# Altium schematic symbol library STM32F334.SchLib: 3 symbols
Pins are listed as number, name and electrical type; pins without a type are passive.

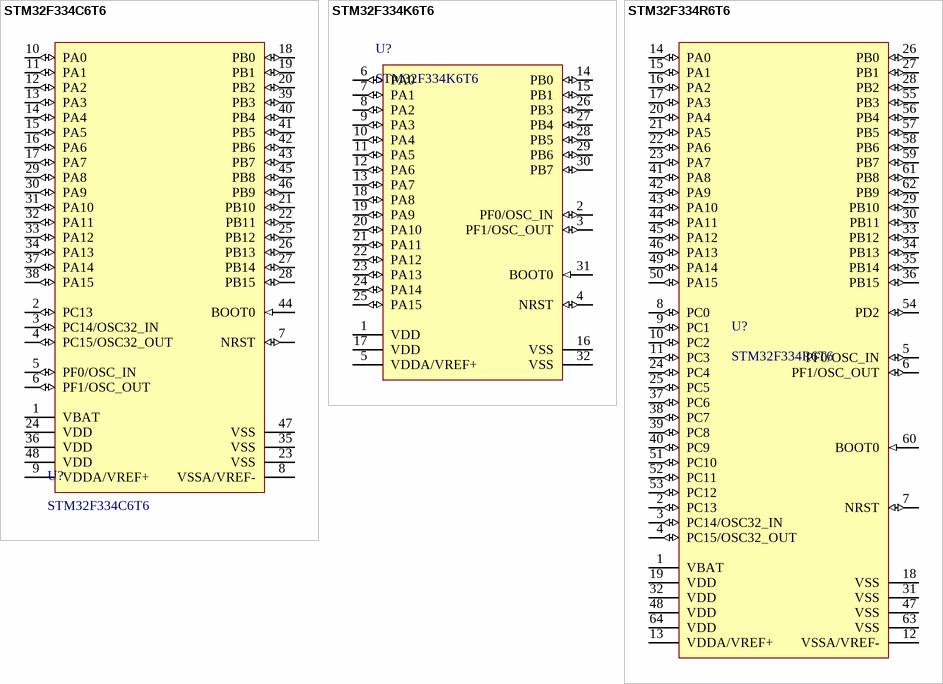
[diagram p0: symbols STM32F334C6T6 to STM32F334R6T6]

## STM32F334C6T6
designator U?
ARM Cortex-M4 32-bit MCU, 48-Pin LQFP, 32 KB Flash, 16 KB Internal RAM, 37 I/Os, -40 to 85 degC, Tray
footprint STM-LQFP48_N
pins: 1 VBAT (power) "Backup power supply", 2 PC13 (io) "PC13/TIM1_CH1N/RTC_TAMP1/RTC_TS/RTC_OUT/WKUP2", 3 PC14/OSC32_IN (io), 4 PC15/OSC32_OUT (io), 5 PF0/OSC_IN (io) "PF0/TIM1_CH3N/OSC_IN", 6 PF1/OSC_OUT (io), 7 NRST (io) "Device reset input/internal reset output (active low)", 8 VSSA/VREF- (power) "Analog ground/Negative reference voltage", 9 VDDA/VREF+ (power) "Analog power supply/Positive reference voltage", 10 PA0 (io) "PA0/TIM2_CH1/TIM2_ETR,TSC_G1_IO1,USART2_CTS,EVENTOUT/ADC1_IN1,RTC_TAMP2/WKUP1", 11 PA1 (io) "PA1/TIM2_CH2,TSC_G1_IO2,USART2_RTS_DE,TIM15_CH1N,EVENTOUT/ADC1_IN2,RTC_REFIN", 12 PA2 (io) "PA2/TIM2_CH3,TSC_G1_IO3,USART2_TX,COMP2_OUT,TIM15_CH1,EVENTOUT/ADC1_IN3,COMP2_INM", 13 PA3 (io) "PA3/TIM2_CH4,TSC_G1_IO4,USART2_RX,TIM15_CH2,EVENTOUT/ADC1_IN4", 14 PA4 (io) "PA4/TIM3_CH2,TSC_G2_IO1,SPI1_NSS,USART2_CK,EVENTOUT/ADC2_IN1,DAC1_OUT1,COMP2_INM4,COMP4_INM4,COMP6_INM4", 15 PA5 (io) "PA5/TIM2_CH1/TIM2_ETR,TSC_G2_IO2,SPI1_SCK,EVENTOUT/ADC2_IN2,DAC1_OUT2,OPAMP2_VINM", 16 PA6 (io) "PA6/TIM16_CH1,TIM3_CH1,TSC_G2_IO3,SPI1_MISO,TIM1_BKIN,OPAMP2_DIG,EVENTOUT/ADC2_IN3,DAC2_OUT1,OPAMP2_VOUT", 17 PA7 (io) "PA7/TIM17_CH1,TIM3_CH2,TSC_G2_IO4,SPI1_MOSI,TIM1_CH1N,EVENTOUT/ADC2_IN4,COMP2_INP,OPAMP2_VINP", 18 PB0 (io) "PB0/TIM3_CH3,TSC_G3_IO2,TIM1_CH2N,EVENTOUT/ADC1_IN11,COMP4_INP,OPAMP2_VINP", 19 PB1 (io) "PB1/TIM3_CH4,TSC_G3_IO3,TIM1_CH3N,COMP4_OUT,HRTIM1_SCOUT,EVENTOUT/ADC1_IN12", 20 PB2 (io) "PB2/TSC_G3_IO4,HRTIM_SCIN,EVENTOUT/ADC2_IN12,COMP4_INM", 21 PB10 (io) "PB10/TIM2_CH3,TSC_SYNC,USART3_TX,HRTIM1_FLT3,EVENTOUT", 22 PB11 (io) "PB11/TIM2_CH4,TSC_G6_IO1,USART3_RX,HRTIM1_FLT4,EVENTOUT/COMP6_INP", 23 VSS (power) "Digital ground", 24 VDD (power) "Digital power supply", 25 PB12 (io) "PB12/TSC_G6_IO2,TIM1_BKIN,USART3_CK,HRTIM1_CHC1,EVENTOUT/ADC2_IN13", 26 PB13 (io) "PB13/TSC_G6_IO3,TIM1_CH1N,USART3_CTS,HRTIM1_CHC2,EVENTOUT/ADC1_IN13", 27 PB14 (io) "PB14/TIM15_CH1,TSC_G6_IO4,TIM1_CH2N,USART3_RTS_DE,HRTIM1_CHD1,EVENTOUT/ADC2_IN14,OPAMP2_VINP", 28 PB15 (io) "PB15/TIM15_CH2,TIM15_CH1N,TIM1_CH3N,HRTIM1_CHD2,EVENTOUT/ADC2_IN15,COMP6_INM,RTC_REFIN", 29 PA8 (io) "PA8/MCO,TIM1_CH1,USART1_CK,HRTIM1_CHA1,EVENTOUT", 30 PA9 (io) "PA9/TSC_G4_IO1,TIM1_CH2,USART1_TX,TIM15_BKIN,TIM2_CH3,HRTIM1_CHA2,EVENTOUT", 31 PA10 (io) "PA10/TIM17_BKIN,TSC_G4_IO2,TIM1_CH3,USART1_RX,COMP6_OUT,TIM2_CH4,HRTIM1_CHB1,EVENTOUT", 32 PA11 (io) "PA11/TIM1_CH1N,USART1_CTS,CAN_RX,TIM1_CH4,TIM1_BKIN2,HRTIM1_CHB2,EVENTOUT", 33 PA12 (io) "PA12/TIM16_CH1,TIM1_CH2N,USART1_RTS_DE,COMP2_OUT,CAN_TX,TIM1_ETR,HRTIM1_FLT1,EVENTOUT", 34 PA13 (io) "PA13/JTMS/SWDAT,TIM16_CH1N,TSC_G4_IO3,IR_OUT,USART3_CTS,EVENTOUT", 35 VSS (power), 36 VDD (power), 37 PA14 (io) "PA14/JTCK/SWCLK,TSC_G4_IO4,I2C1_SDA,TIM1_BKIN,USART2_TX,EVENTOUT", 38 PA15 (io) "PA15/JTDI,TIM2_CH1/TIM2_ETR,TSC_SYNC,I2C1_SCL,SPI1_NSS,USART2_RX,TIM1_BKIN,HRTIM1_FLT2,EVENTOUT", 39 PB3 (io) "PB3/JTDO/TRACESWO,TIM2_CH2,TSC_G5_IO1,SPI1_SCK,USART2_TX,TIM3_ETR,HRTIM1_SCOUT,HRTIM1_EEV9,EVENTOUT", 40 PB4 (io) "PB4/NJTRST,TIM16_CH1,TIM3_CH1,TSC_G5_IO2,SPI1_MISO,USART2_RX,TIM17_BKIN,HRTIM1_EEV7,EVENTOUT", 41 PB5 (io) "PB5/TIM16_BKIN,TIM3_CH2,I2C1_SMBA,SPI1_MOSI,USART2_CK,TIM17_CH1,HRTIM1_EEV6,EVENTOUT", 42 PB6 (io) "PB6/TIM16_CH1N,TSC_G5_IO3,I2C1_SCL,USART1_TX,HRTIM1_SCIN,HRTIM1_EEV4,EVENTOUT", 43 PB7 (io) "PB7/TIM17_CH1N,TSC_G5_IO4,I2C1_SDA,USART1_RX,TIM3_CH4,HRTIM1_EEV3,EVENTOUT", 44 BOOT0 (in), 45 PB8 (io) "PB8/TIM16_CH1,TSC_SYNC,I2C1_SCL,USART3_RX,CAN_RX,TIM1_BKIN,HRTIM1_EEV8,EVENTOUT", 46 PB9 (io) "PB9/TIM17_CH1,I2C1_SDA,IR_OUT,USART3_TX,COMP2_OUT,CAN_TX,HRTIM1_EEV5,EVENTOUT", 47 VSS (power), 48 VDD (power)

## STM32F334K6T6
designator U?
ARM Cortex-M4 32-bit MCU, 32-Pin LQFP, 32 KB Flash, 16 KB Internal RAM, 25 I/Os, -40 to 85 degC, Tray; D/A Converter: 3; Internal RAM Size (kB): 16; I/Os (High Current): 25; Supply Voltage(Vcc) min (V): 2; Operating Frequency(F) (Processor speed) (MHz): 72; FLASH Size (Prog) (kB): 32; ComponentLink1Description: Manufacturer URL; Mounting Technology: Surface Mount; ComponentLink1URL: http://www.st.com/; Package Description: 32-Pin Low Profile Quad Flat Package, 7 x 7 mm Body, 0.8 mm Pitch; ComponentLink2URL: http://www.st.com/st-web-ui/static/active/en/resource/technical/document/datasheet/DM00097745.pdf; Packing: Tray; Package Reference: LQFP32; Core: ARM Cortex-M4; ComponentLink2Description: Datasheet; DatasheetVersion: Rev. 4
footprint STM-LQFP32_N (QFP, 32-Leads, Body 7x7mm, Pitch 0.8mm, IPC Medium Density)
pins: 1 VDD (power), 2 PF0/OSC_IN (io) "PF0/TIM1_CH3N/OSC_IN", 3 PF1/OSC_OUT (io), 4 NRST (io) "Device reset input/internal reset output (active low)", 5 VDDA/VREF+ (power) "Analog power supply/Positive reference voltage", 6 PA0 (io) "PA0/TIM2_CH1/TIM2_ETR,TSC_G1_IO1,USART2_CTS,EVENTOUT/ADC1_IN1,RTC_TAMP2/WKUP1", 7 PA1 (io) "PA1/TIM2_CH2,TSC_G1_IO2,USART2_RTS_DE,TIM15_CH1N,EVENTOUT/ADC1_IN2,RTC_REFIN", 8 PA2 (io) "PA2/TIM2_CH3,TSC_G1_IO3,USART2_TX,COMP2_OUT,TIM15_CH1,EVENTOUT/ADC1_IN3,COMP2_INM", 9 PA3 (io) "PA3/TIM2_CH4,TSC_G1_IO4,USART2_RX,TIM15_CH2,EVENTOUT/ADC1_IN4", 10 PA4 (io) "PA4/TIM3_CH2,TSC_G2_IO1,SPI1_NSS,USART2_CK,EVENTOUT/ADC2_IN1,DAC1_OUT1,COMP2_INM4,COMP4_INM4,COMP6_INM4", 11 PA5 (io) "PA5/TIM2_CH1/TIM2_ETR,TSC_G2_IO2,SPI1_SCK,EVENTOUT/ADC2_IN2,DAC1_OUT2,OPAMP2_VINM", 12 PA6 (io) "PA6/TIM16_CH1,TIM3_CH1,TSC_G2_IO3,SPI1_MISO,TIM1_BKIN,OPAMP2_DIG,EVENTOUT/ADC2_IN3,DAC2_OUT1,OPAMP2_VOUT", 13 PA7 (io) "PA7/TIM17_CH1,TIM3_CH2,TSC_G2_IO4,SPI1_MOSI,TIM1_CH1N,EVENTOUT/ADC2_IN4,COMP2_INP,OPAMP2_VINP", 14 PB0 (io) "PB0/TIM3_CH3,TSC_G3_IO2,TIM1_CH2N,EVENTOUT/ADC1_IN11,COMP4_INP,OPAMP2_VINP", 15 PB1 (io) "PB1/TIM3_CH4,TSC_G3_IO3,TIM1_CH3N,COMP4_OUT,HRTIM1_SCOUT,EVENTOUT/ADC1_IN12", 16 VSS (power) "Digital ground", 17 VDD (power) "Digital power supply", 18 PA8 (io) "PA8/MCO,TIM1_CH1,USART1_CK,HRTIM1_CHA1,EVENTOUT", 19 PA9 (io) "PA9/TSC_G4_IO1,TIM1_CH2,USART1_TX,TIM15_BKIN,TIM2_CH3,HRTIM1_CHA2,EVENTOUT", 20 PA10 (io) "PA10/TIM17_BKIN,TSC_G4_IO2,TIM1_CH3,USART1_RX,COMP6_OUT,TIM2_CH4,HRTIM1_CHB1,EVENTOUT", 21 PA11 (io) "PA11/TIM1_CH1N,USART1_CTS,CAN_RX,TIM1_CH4,TIM1_BKIN2,HRTIM1_CHB2,EVENTOUT", 22 PA12 (io) "PA12/TIM16_CH1,TIM1_CH2N,USART1_RTS_DE,COMP2_OUT,CAN_TX,TIM1_ETR,HRTIM1_FLT1,EVENTOUT", 23 PA13 (io) "PA13/JTMS/SWDAT,TIM16_CH1N,TSC_G4_IO3,IR_OUT,USART3_CTS,EVENTOUT", 24 PA14 (io) "PA14/JTCK/SWCLK,TSC_G4_IO4,I2C1_SDA,TIM1_BKIN,USART2_TX,EVENTOUT", 25 PA15 (io) "PA15/JTDI,TIM2_CH1/TIM2_ETR,TSC_SYNC,I2C1_SCL,SPI1_NSS,USART2_RX,TIM1_BKIN,HRTIM1_FLT2,EVENTOUT", 26 PB3 (io) "PB3/JTDO/TRACESWO,TIM2_CH2,TSC_G5_IO1,SPI1_SCK,USART2_TX,TIM3_ETR,HRTIM1_SCOUT,HRTIM1_EEV9,EVENTOUT", 27 PB4 (io) "PB4/NJTRST,TIM16_CH1,TIM3_CH1,TSC_G5_IO2,SPI1_MISO,USART2_RX,TIM17_BKIN,HRTIM1_EEV7,EVENTOUT", 28 PB5 (io) "PB5/TIM16_BKIN,TIM3_CH2,I2C1_SMBA,SPI1_MOSI,USART2_CK,TIM17_CH1,HRTIM1_EEV6,EVENTOUT", 29 PB6 (io) "PB6/TIM16_CH1N,TSC_G5_IO3,I2C1_SCL,USART1_TX,HRTIM1_SCIN,HRTIM1_EEV4,EVENTOUT", 30 PB7 (io) "PB7/TIM17_CH1N,TSC_G5_IO4,I2C1_SDA,USART1_RX,TIM3_CH4,HRTIM1_EEV3,EVENTOUT", 31 BOOT0 (in), 32 VSS (power)

## STM32F334R6T6
designator U?
ARM Cortex-M4 32-bit MCU, 64-Pin LQFP, 32 KB Flash, 16 KB Internal RAM, 51 I/Os, -40 to 85 degC, Tray
footprint STM-LQFP64_N
pins: 1 VBAT (power) "Backup power supply", 2 PC13 (io) "PC13/TIM1_CH1N/RTC_TAMP1/RTC_TS/RTC_OUT/WKUP2", 3 PC14/OSC32_IN (io), 4 PC15/OSC32_OUT (io), 5 PF0/OSC_IN (io) "PF0/TIM1_CH3N/OSC_IN", 6 PF1/OSC_OUT (io), 7 NRST (io) "Device reset input/internal reset output (active low)", 8 PC0 (io) "PC0/EVENTOUT,TIM1_CH1/ADC12_IN6", 9 PC1 (io) "PC1/EVENTOUT,TIM1_CH2/ADC12_IN7", 10 PC2 (io) "PC2/EVENTOUT,TIM1_CH3/ADC12_IN8", 11 PC3 (io) "PC3/EVENTOUT,TIM1_CH4,TIM1_BKIN2/ADC12_IN9", 12 VSSA/VREF- (power) "Analog ground/Negative reference voltage", 13 VDDA/VREF+ (power) "Analog power supply/Positive reference voltage", 14 PA0 (io) "PA0/TIM2_CH1/TIM2_ETR,TSC_G1_IO1,USART2_CTS,EVENTOUT/ADC1_IN1,RTC_TAMP2/WKUP1", 15 PA1 (io) "PA1/TIM2_CH2,TSC_G1_IO2,USART2_RTS_DE,TIM15_CH1N,EVENTOUT/ADC1_IN2,RTC_REFIN", 16 PA2 (io) "PA2/TIM2_CH3,TSC_G1_IO3,USART2_TX,COMP2_OUT,TIM15_CH1,EVENTOUT/ADC1_IN3,COMP2_INM", 17 PA3 (io) "PA3/TIM2_CH4,TSC_G1_IO4,USART2_RX,TIM15_CH2,EVENTOUT/ADC1_IN4", 18 VSS (power), 19 VDD (power), 20 PA4 (io) "PA4/TIM3_CH2,TSC_G2_IO1,SPI1_NSS,USART2_CK,EVENTOUT/ADC2_IN1,DAC1_OUT1,COMP2_INM4,COMP4_INM4,COMP6_INM4", 21 PA5 (io) "PA5/TIM2_CH1/TIM2_ETR,TSC_G2_IO2,SPI1_SCK,EVENTOUT/ADC2_IN2,DAC1_OUT2,OPAMP2_VINM", 22 PA6 (io) "PA6/TIM16_CH1,TIM3_CH1,TSC_G2_IO3,SPI1_MISO,TIM1_BKIN,OPAMP2_DIG,EVENTOUT/ADC2_IN3,DAC2_OUT1,OPAMP2_VOUT", 23 PA7 (io) "PA7/TIM17_CH1,TIM3_CH2,TSC_G2_IO4,SPI1_MOSI,TIM1_CH1N,EVENTOUT/ADC2_IN4,COMP2_INP,OPAMP2_VINP", 24 PC4 (io) "PC4/EVENTOUT,TIM1_ETR,USART1_TX/ADC2_IN5", 25 PC5 (io) "PC5/EVENTOUT,TIM15_BKIN,TSC_G3_IO1,USART1_RX/ADC2_IN11,OPAMP2_VINM", 26 PB0 (io) "PB0/TIM3_CH3,TSC_G3_IO2,TIM1_CH2N,EVENTOUT/ADC1_IN11,COMP4_INP,OPAMP2_VINP", 27 PB1 (io) "PB1/TIM3_CH4,TSC_G3_IO3,TIM1_CH3N,COMP4_OUT,HRTIM1_SCOUT,EVENTOUT/ADC1_IN12", 28 PB2 (io) "PB2/TSC_G3_IO4,HRTIM_SCIN,EVENTOUT/ADC2_IN12,COMP4_INM", 29 PB10 (io) "PB10/TIM2_CH3,TSC_SYNC,USART3_TX,HRTIM1_FLT3,EVENTOUT", 30 PB11 (io) "PB11/TIM2_CH4,TSC_G6_IO1,USART3_RX,HRTIM1_FLT4,EVENTOUT/COMP6_INP", 31 VSS (power) "Digital ground", 32 VDD (power) "Digital power supply", 33 PB12 (io) "PB12/TSC_G6_IO2,TIM1_BKIN,USART3_CK,HRTIM1_CHC1,EVENTOUT/ADC2_IN13", 34 PB13 (io) "PB13/TSC_G6_IO3,TIM1_CH1N,USART3_CTS,HRTIM1_CHC2,EVENTOUT/ADC1_IN13", 35 PB14 (io) "PB14/TIM15_CH1,TSC_G6_IO4,TIM1_CH2N,USART3_RTS_DE,HRTIM1_CHD1,EVENTOUT/ADC2_IN14,OPAMP2_VINP", 36 PB15 (io) "PB15/TIM15_CH2,TIM15_CH1N,TIM1_CH3N,HRTIM1_CHD2,EVENTOUT/ADC2_IN15,COMP6_INM,RTC_REFIN", 37 PC6 (io) "PC6/EVENTOUT,TIM3_CH1,HRTIM1_EEV10,COMP6_OUT", 38 PC7 (io) "PC7/EVENTOUT,TIM3_CH2,HRTIM1_FLT5", 39 PC8 (io) "PC8/EVENTOUT,TIM3_CH3,HRTIM1_CHE1", 40 PC9 (io) "PC9/EVENTOUT,TIM3_CH4,HRTIM1_CHE2", 41 PA8 (io) "PA8/MCO,TIM1_CH1,USART1_CK,HRTIM1_CHA1,EVENTOUT", 42 PA9 (io) "PA9/TSC_G4_IO1,TIM1_CH2,USART1_TX,TIM15_BKIN,TIM2_CH3,HRTIM1_CHA2,EVENTOUT", 43 PA10 (io) "PA10/TIM17_BKIN,TSC_G4_IO2,TIM1_CH3,USART1_RX,COMP6_OUT,TIM2_CH4,HRTIM1_CHB1,EVENTOUT", 44 PA11 (io) "PA11/TIM1_CH1N,USART1_CTS,CAN_RX,TIM1_CH4,TIM1_BKIN2,HRTIM1_CHB2,EVENTOUT", 45 PA12 (io) "PA12/TIM16_CH1,TIM1_CH2N,USART1_RTS_DE,COMP2_OUT,CAN_TX,TIM1_ETR,HRTIM1_FLT1,EVENTOUT", 46 PA13 (io) "PA13/JTMS/SWDAT,TIM16_CH1N,TSC_G4_IO3,IR_OUT,USART3_CTS,EVENTOUT", 47 VSS (power), 48 VDD (power), 49 PA14 (io) "PA14/JTCK/SWCLK,TSC_G4_IO4,I2C1_SDA,TIM1_BKIN,USART2_TX,EVENTOUT", 50 PA15 (io) "PA15/JTDI,TIM2_CH1/TIM2_ETR,TSC_SYNC,I2C1_SCL,SPI1_NSS,USART2_RX,TIM1_BKIN,HRTIM1_FLT2,EVENTOUT", 51 PC10 (io) "PC10/EVENTOUT,USART3_TX", 52 PC11 (io) "PC11/EVENTOUT,HRTIM1_EEV2,USART3_RX", 53 PC12 (io) "PC12/EVENTOUT,HRTIM1_EEV1,USART3_CK", 54 PD2 (io) "PD2/EVENTOUT,TIM3_ETR", 55 PB3 (io) "PB3/JTDO/TRACESWO,TIM2_CH2,TSC_G5_IO1,SPI1_SCK,USART2_TX,TIM3_ETR,HRTIM1_SCOUT,HRTIM1_EEV9,EVENTOUT", 56 PB4 (io) "PB4/NJTRST,TIM16_CH1,TIM3_CH1,TSC_G5_IO2,SPI1_MISO,USART2_RX,TIM17_BKIN,HRTIM1_EEV7,EVENTOUT", 57 PB5 (io) "PB5/TIM16_BKIN,TIM3_CH2,I2C1_SMBA,SPI1_MOSI,USART2_CK,TIM17_CH1,HRTIM1_EEV6,EVENTOUT", 58 PB6 (io) "PB6/TIM16_CH1N,TSC_G5_IO3,I2C1_SCL,USART1_TX,HRTIM1_SCIN,HRTIM1_EEV4,EVENTOUT", 59 PB7 (io) "PB7/TIM17_CH1N,TSC_G5_IO4,I2C1_SDA,USART1_RX,TIM3_CH4,HRTIM1_EEV3,EVENTOUT", 60 BOOT0 (in), 61 PB8 (io) "PB8/TIM16_CH1,TSC_SYNC,I2C1_SCL,USART3_RX,CAN_RX,TIM1_BKIN,HRTIM1_EEV8,EVENTOUT", 62 PB9 (io) "PB9/TIM17_CH1,I2C1_SDA,IR_OUT,USART3_TX,COMP2_OUT,CAN_TX,HRTIM1_EEV5,EVENTOUT", 63 VSS (power), 64 VDD (power)